# Altium footprint library Buzzers.PcbLib: 1 footprints
Each footprint in its own frame and in the unit in brackets; x right, y up, seen from the top. Pads: shape width x height; smd on the part's side, far side on the other; paste and mask are expansions set on the pad; w line width, h text height; cw(c..) or ccw(c..) is an arc to the next point about the centre after c.
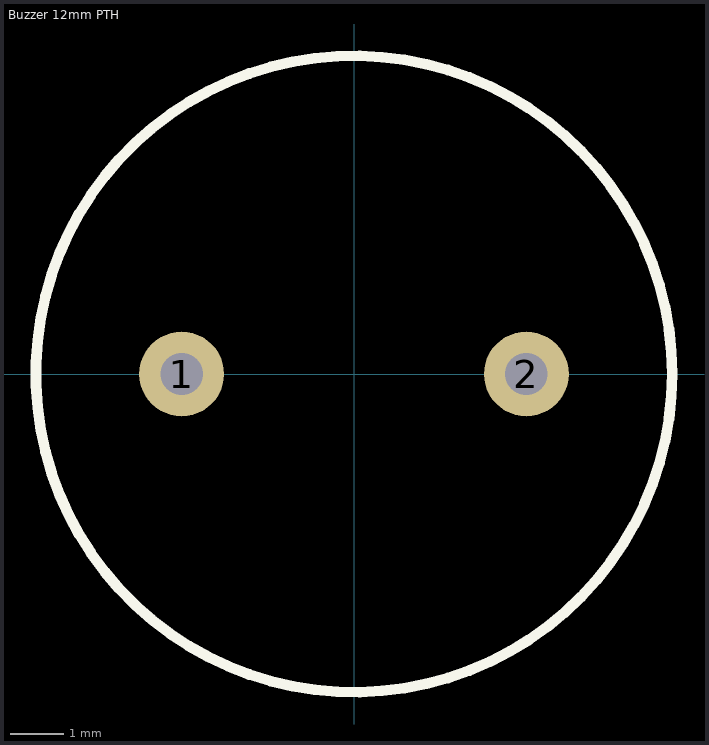
[diagram p0: the footprint, top view; thin cyan lines are the x and y axes]

## Buzzer 12mm PTH [mm] "Buzzers Transducer, Externally Driven Magnetic 5V 40mA 2.4kHz 87dB @ 5V, 10cm Through Hole PC Pins"
pads (2):
  round 1.6 hole 0.8: 1(-3.25,0) 2(3.25,0)
Top Overlay:
  circle w0.2: c0,0 r6
3D body "Buzzer 12mm.step": height 7.5, standoff -2, extent -6,-6.236 6,5.75